# Altium schematic symbol library !main.SchLib: 16 symbols
Pins are listed as number, name and electrical type; pins without a type are passive.

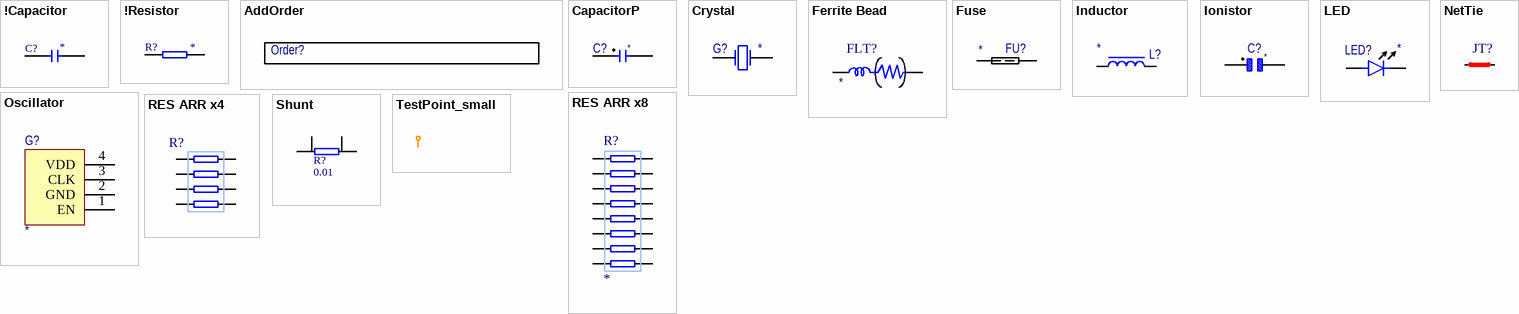
[diagram p0: symbols !Capacitor to TestPoint_small]

## !Capacitor
designator C?
Capacitor; IsSMT: NoSMT; Diel: X7R; Voltage: *; Value: *
footprint CERCAP 0201
footprint CERCAP 0402
footprint CERCAP 0603
footprint CERCAP 0805
footprint CERCAP 1206
footprint CERCAP 1210
footprint CERCAP 1812
footprint CERCAP 2220
pins: 1, 2

## !Resistor
designator R?
Resistor; IsSMT: NoSMT; Value: *
footprint RES 0201
footprint RES 0402
footprint RES 0603
footprint RES 0805
footprint RES 1206
footprint RES 1210
footprint RES 2010
footprint RES 2512
pins: 1 11, 2 12

## AddOrder
designator ADD?, comment Order?  (mechanical)

## CapacitorP
designator C?
Capacitor Polar; IsSMT: NoSMT; Diel: X7R; Voltage: *; Value: *
footprint TECAP A
footprint TECAP B
footprint TECAP C
footprint TECAP D
footprint TECAP E
footprint ECAP D5C2H11
footprint ECAP D6.3C2.5H11
footprint ECAP D6.3C2.5H16(H)
footprint ECAP D8C3.5H12
footprint ECAP D10C5H12.5
footprint ECAP D10C5H16
footprint ECAP D10C5H16 (H)
footprint ECAP D10C5H20
footprint ECAP D10C5H20 (H)
footprint ECAP D13C5H20
footprint ECAP D13C5H25
footprint ECAP D16C7.5H25
footprint ECAP D16C7.5H31.5
footprint ECAP D18C7.5H25
footprint ECAP D18C7.5H32
footprint ECAP D18C7.5H32 (H)
footprint ECAP D18C7.5H40
footprint ECAP D22C10H25
footprint ECAP D25C10H50
footprint ECAP D30C10H37
footprint ECAP D30C10.5H47
footprint ECAP D35C10H40
footprint ECAP D35C10.5H50
pins: 1 +, 2 -

## Crystal
designator G?
Crystal; IsSMT: NoSMT; Value: *
footprint 2016
footprint 2520
footprint 3215
footprint 3225; pin to pad 2>3
footprint 5032
footprint 5032-W
footprint 5070
footprint 1210
pins: 1, 2

## Ferrite Bead
designator FLT?
Ferrite Bead; IsSMT: NoSMT; Value: *
footprint IND 0201
footprint IND 0402
footprint IND 0603
footprint IND 0805
pins: 1 10, 2

## Fuse
designator FU?
Over current protect; IsSMT: NoSMT; Value: *
footprint FUSE 0603
footprint FUSE 0805
footprint FUSE 1206
footprint FUSE 1812
pins: 1 9, 2 9

## Inductor
designator L?
Inductor; IsSMT: NoSMT; Value: *
footprint IND 0201
footprint IND 0402
footprint IND 0603
footprint IND 0805
footprint IND-4.6x4.6
footprint IND-5.2x5.4
footprint IND-5x5
footprint FXL0420
pins: 1 7, 2 8

## Ionistor
designator C?
Super Capacitor; IsSMT: NoSMT; Order: *; LCSC Part #: *; BuyLink1: *; Value: *
footprint DCS5R5224H
pins: 1 + (power), 2 - (power)

## LED
designator LED?
Light Emittering Diode; IsSMT: NoSMT; Value: *
footprint LED 0402
footprint LED 0603
footprint LED 0805
footprint LED 1206
footprint LED: 5730
footprint LED: 6868
pins: 1 Anode, 2 Cathode

## NetTie
designator JT?  (net tie, no BOM)
IsSMT: NoSMT; Order: *; BuyLink1: *; LCSC Part #: *
footprint NetTie
pins: 1, 2

## Oscillator
designator G?
Oscillator; IsSMT: NoSMT; Order: OSC *** ***Hz; LCSC Part #: *; BuyLink1: *; Value: *
footprint 3225
footprint 5070
footprint 2016
footprint TSETTCJANF-19.440000; pin to pad 1>8 2>4 3>5 4>9
pins: 1 EN, 2 GND, 3 CLK, 4 VDD

## RES ARR x4
designator R?  (value not drawn)
4x array of resistors; Order: RESARR *X **** ****; IsSMT: NoSMT; Value: *; LCSC Part #: *; BuyLink1: *
footprint CHIP-0402x4L (Chip Array, Concave, 8-Leads, Pitch 0,50mm,  Body 2,00x1,00mm,  IPC High Density)
footprint CHIP-0402x4N (Chip Array, Concave, 8-Leads, Pitch 0,50mm,  Body 2,00x1,00mm,  IPC Medium Density)
footprint CHIP-0402x4M (Chip Array, Concave, 8-Leads, Pitch 0,50mm,  Body 2,00x1,00mm,  IPC Low Density)
footprint CHIP-0603x4N (Chip Array, Concave, 8-Leads, Pitch 0,80mm,  Body 3,20x1,60mm,  IPC Medium Density)
footprint CHIP-0603x4M (Chip Array, Concave, 8-Leads, Pitch 0,80mm,  Body 3,20x1,60mm,  IPC Low Density)
footprint CHIP-0603x4L (Chip Array, Concave, 8-Leads, Pitch 0,80mm,  Body 3,20x1,60mm,  IPC High Density)
pins: 1, 2, 3, 4, 5, 6, 7, 8

## RES ARR x8
designator R?
8x array of resistors; Order: RESARR *X *** ***; IsSMT: NoSMT; LCSC Part #: *; BuyLink1: *; Value: *
pins: 1, 2, 3, 4, 5, 6, 7, 8, 9, 10, 11, 12, 13, 14, 15, 16

## Shunt
designator R?  value 0.01
Resistor; IsSMT: NoSMT
footprint SHUNT1206
footprint SHUNT 0805
pins: 1 11, 2 12, 3 12, 4 12

## TestPoint_small
designator TP?  (value not drawn)  (net tie, no BOM)
Surface test point
footprint TestPoint_small
pins: 1